# Altium footprint library ES_Pcb.PcbLib: 383 footprints (part 19 of 24)
Each footprint in its own frame and in the unit in brackets; x right, y up, seen from the top. Pads: shape width x height; smd on the part's side, far side on the other; paste and mask are expansions set on the pad; w line width, h text height; cw(c..) or ccw(c..) is an arc to the next point about the centre after c.
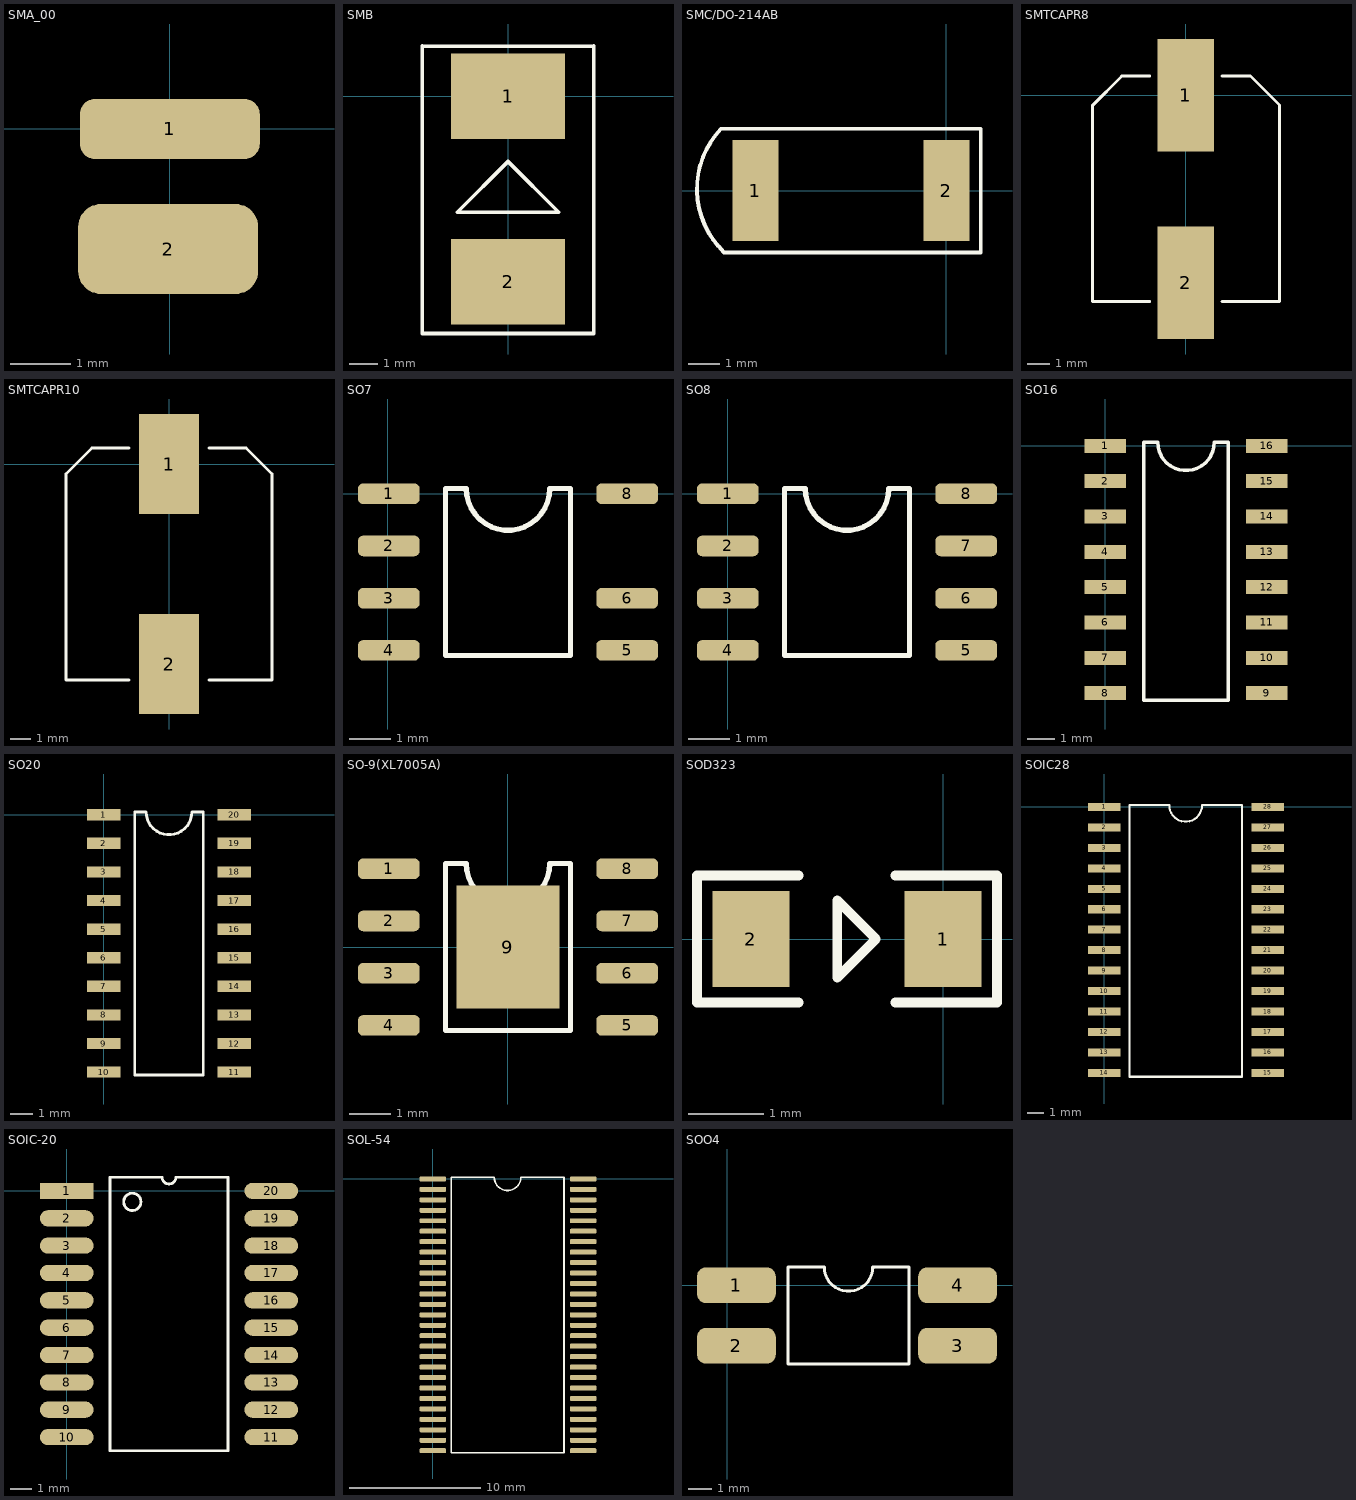
[diagram p18: the footprints below, top view; thin cyan lines are the x and y axes]

## SMA_00 [mm]
pads (2):
  rrect50% 3x1 smd: 1(0,0)
  rrect50% 3x1.5 smd: 2(-0.025,-2)

## SMB [mm]
pads (2):
  rect 4x3 smd: 1(0,0) 2(0,-6.5)
Top Overlay:
  lines w0.127: -3,-8.306 3,-8.306 3,1.753 -3,1.753 -3,-8.306 ; -1.778,-4.064 0,-2.286 1.778,-4.064 -1.778,-4.064

## SMC/DO-214AB [mm]
pads (2):
  rect 1.49x3.27 smd: 1(-6.18,0) 2(0,0)
Top Overlay:
  lines w0.127: -7.29,2 ccw(c-5.24,0.05) -7.19,-2 1.11,-2 1.11,2 -7.29,2

## SMTCAPR8 [mm]
pads (2):
  rect 2.5x5 smd: 1(0,0) 2(0,-8.306)
Top Overlay:
  lines w0.127: -2.861,0.832 -4.15,-0.457 -4.15,-9.14 -1.6,-9.144 ; -2.861,0.86 -1.6,0.86 ; 1.6,-9.14 4.16,-9.14 4.16,-0.433 ; 1.6,0.86 2.861,0.86 4.15,-0.429

## SMTCAPR10 [mm]
pads (2):
  rect 3x5 smd: 1(0,0) 2(0,-10)
Top Overlay:
  lines w0.127: -2,-10.8 -5.15,-10.8 -5.15,-0.489 -3.861,0.8 -2,0.8 ; 2,-10.8 5.15,-10.8 5.15,-0.489 3.861,0.8 2,0.8

## SO7 [mm]
pads (7):
  rrect50% 1.5x0.5 smd: 1(0.025,0) 2(0.025,-1.27) 3(0.025,-2.54) 4(0.025,-3.81) 5(5.825,-3.81) 6(5.825,-2.54) 8(5.825,0)
Top Overlay:
  lines w0.127: 1.401,-3.937 4.449,-3.937 4.449,0.127 3.941,0.127 cw(c2.925,0.127) 1.909,0.127 1.401,0.127 1.401,-3.937

## SO8 [mm]
pads (8):
  rrect50% 1.5x0.5 smd: 1(0,0) 2(0,-1.27) 3(0,-2.54) 4(0,-3.81) 5(5.8,-3.81) 6(5.8,-2.54) 7(5.8,-1.27) 8(5.8,0)
Top Overlay:
  lines w0.127: 1.376,-3.937 1.376,0.127 1.884,0.127 ccw(c2.9,0.127) 3.916,0.127 4.424,0.127 4.424,-3.937 1.376,-3.937

## SO16 [mm]
pads (16):
  rect 1.5x0.5 smd: 1(0,0) 2(0,-1.27) 3(0,-2.54) 4(0,-3.81) 5(0,-5.08) 6(0,-6.35) 7(0,-7.62) 8(0,-8.89) 9(5.8,-8.89) 10(5.8,-7.62) 11(5.8,-6.35) 12(5.8,-5.08) 13(5.8,-3.81) 14(5.8,-2.54) 15(5.8,-1.27) 16(5.8,0)
Top Overlay:
  lines w0.127: 1.376,-9.144 4.424,-9.144 4.424,0.127 3.916,0.127 cw(c2.9,0.127) 1.884,0.127 1.376,0.127 1.376,-9.144

## SO20 [mm]
pads (20):
  rect 1.5x0.5 smd: 1(0,0) 2(0,-1.27) 3(0,-2.54) 4(0,-3.81) 5(0,-5.08) 6(0,-6.35) 7(0,-7.62) 8(0,-8.89) 9(0,-10.16) 10(0,-11.43) 11(5.8,-11.43) 12(5.8,-10.16) 13(5.8,-8.89) 14(5.8,-7.62) 15(5.8,-6.35) 16(5.8,-5.08) 17(5.8,-3.81) 18(5.8,-2.54) 19(5.8,-1.27) 20(5.8,0)
Top Overlay:
  lines w0.127: 1.376,-11.557 1.376,0.127 1.884,0.127 ccw(c2.9,0.127) 3.916,0.127 4.424,0.127 4.424,-11.557 1.376,-11.557

## SO-9(XL7005A) [mm]
pads (9):
  rrect50% 1.5x0.5 smd: 1(-2.9,1.905) 2(-2.9,0.635) 3(-2.9,-0.635) 4(-2.9,-1.905) 5(2.9,-1.905) 6(2.9,-0.635) 7(2.9,0.635) 8(2.9,1.905)
  rect 2.5x3 smd: 9(0,0)
Top Overlay:
  lines w0.127: -1.524,-2.032 1.524,-2.032 1.524,2.032 1.016,2.032 cw(c0,2.032) -1.016,2.032 -1.524,2.032 -1.524,-2.032

## SOD323 [mil]
pads (2):
  rect 40x50 smd: 1(0,0) 2(-100,0)
Top Overlay:
  lines w5: -75,-33 -128,-33 -128,33 -75,33 ; -25,-33 28,-33 28,33 -25,33 ; -55,-20 -35,0 -55,20 -55,-20

## SOIC16宽体 [mm]

## SOIC28 [mm]
pads (28):
  rect 2x0.5 smd: 1(0,0) 2(0,-1.27) 3(0,-2.54) 4(0,-3.81) 5(0,-5.08) 6(0,-6.35) 7(0,-7.62) 8(0,-8.89) 9(0,-10.16) 10(0,-11.43) 11(0,-12.7) 12(0,-13.97) 13(0,-15.24) 14(0,-16.51) 15(10.16,-16.51) 16(10.16,-15.24) 17(10.16,-13.97) 18(10.16,-12.7) 19(10.16,-11.43) 20(10.16,-10.16) 21(10.16,-8.89) 22(10.16,-7.62) 23(10.16,-6.35) 24(10.16,-5.08) 25(10.16,-3.81) 26(10.16,-2.54) 27(10.16,-1.27) 28(10.16,0)
Top Overlay:
  lines w0.127: 4.043,0.1 ccw(c5.059,0.1) 6.075,0.1 ; 4.043,0.127 1.575,0.127 1.575,-16.75 8.55,-16.75 8.55,0.127 6.075,0.127

## SOIC-20 [mm]
pads (20):
  rect 2.5x0.75 smd: 1(0,0)
  oval 2.5x0.75 smd: 2(0,-1.27) 3(0,-2.54) 4(0,-3.81) 5(0,-5.08) 6(0,-6.35) 7(0,-7.62) 8(0,-8.89) 9(0,-10.16) 10(0,-11.43) 11(9.5,-11.43) 12(9.5,-10.16) 13(9.5,-8.89) 14(9.5,-7.62) 15(9.5,-6.35) 16(9.5,-5.08) 17(9.5,-3.81) 18(9.5,-2.54) 19(9.5,-1.27) 20(9.5,0)
Top Overlay:
  circle w0.127: c3.048,-0.508 r0.402
  lines w0.127: 2.012,-12.065 2.012,0.635 4.432,0.635 ccw(c4.75,0.635) 5.067,0.635 7.488,0.635 7.488,-12.065 2.012,-12.065

## SOL-54 [mil]
pads (54):
  rrect50% 80x15 smd: 1(0,0) 2(0,-31.5) 3(0,-62.99) 4(0,-94.49) 5(0,-125.98) 6(0,-157.48) 7(0,-188.98) 8(0,-220.47) 9(0,-251.97) 10(0,-283.46) 11(0,-314.96) 12(0,-346.46) 13(0,-377.95) 14(0,-409.45) 15(0,-440.94) 16(0,-472.44) 17(0,-503.94) 18(0,-535.43) 19(0,-566.93) 20(0,-598.43) 21(0,-629.92) 22(0,-661.42) 23(0,-692.91) 24(0,-724.41) 25(0,-755.91) 26(0,-787.4) 27(0,-818.9) 28(452.76,-818.9) 29(452.76,-787.4) 30(452.76,-755.91) 31(452.76,-724.41) 32(452.76,-692.91) 33(452.76,-661.42) 34(452.76,-629.92) 35(452.76,-598.43) 36(452.76,-566.93) 37(452.76,-535.43) 38(452.76,-503.94) 39(452.76,-472.44) 40(452.76,-440.94) 41(452.76,-409.45) 42(452.76,-377.95) 43(452.76,-346.46) 44(452.76,-314.96) 45(452.76,-283.46) 46(452.76,-251.97) 47(452.76,-220.47) 48(452.76,-188.98) 49(452.76,-157.48) 50(452.76,-125.98) 51(452.76,-94.49) 52(452.76,-62.99) 53(452.76,-31.5) 54(452.76,0)
Top Overlay:
  lines w5: 55,-825 395,-825 395,5 265,5 cw(c225,5) 185,5 55,5 55,-825

## SOO4 [mil]
pads (4):
  rrect50% 130x59.06 smd: 1(15,0) 2(15,-100) 3(380,-100) 4(380,0)
Top Overlay:
  lines w5: 100,-130 100,30 160,30 ccw(c200,30) 240,30 300,30 300,-130 100,-130